# Altium integrated library ON Semi Signal Management Operational Amplifiers.IntLib: 435 symbols (part 11 of 12)
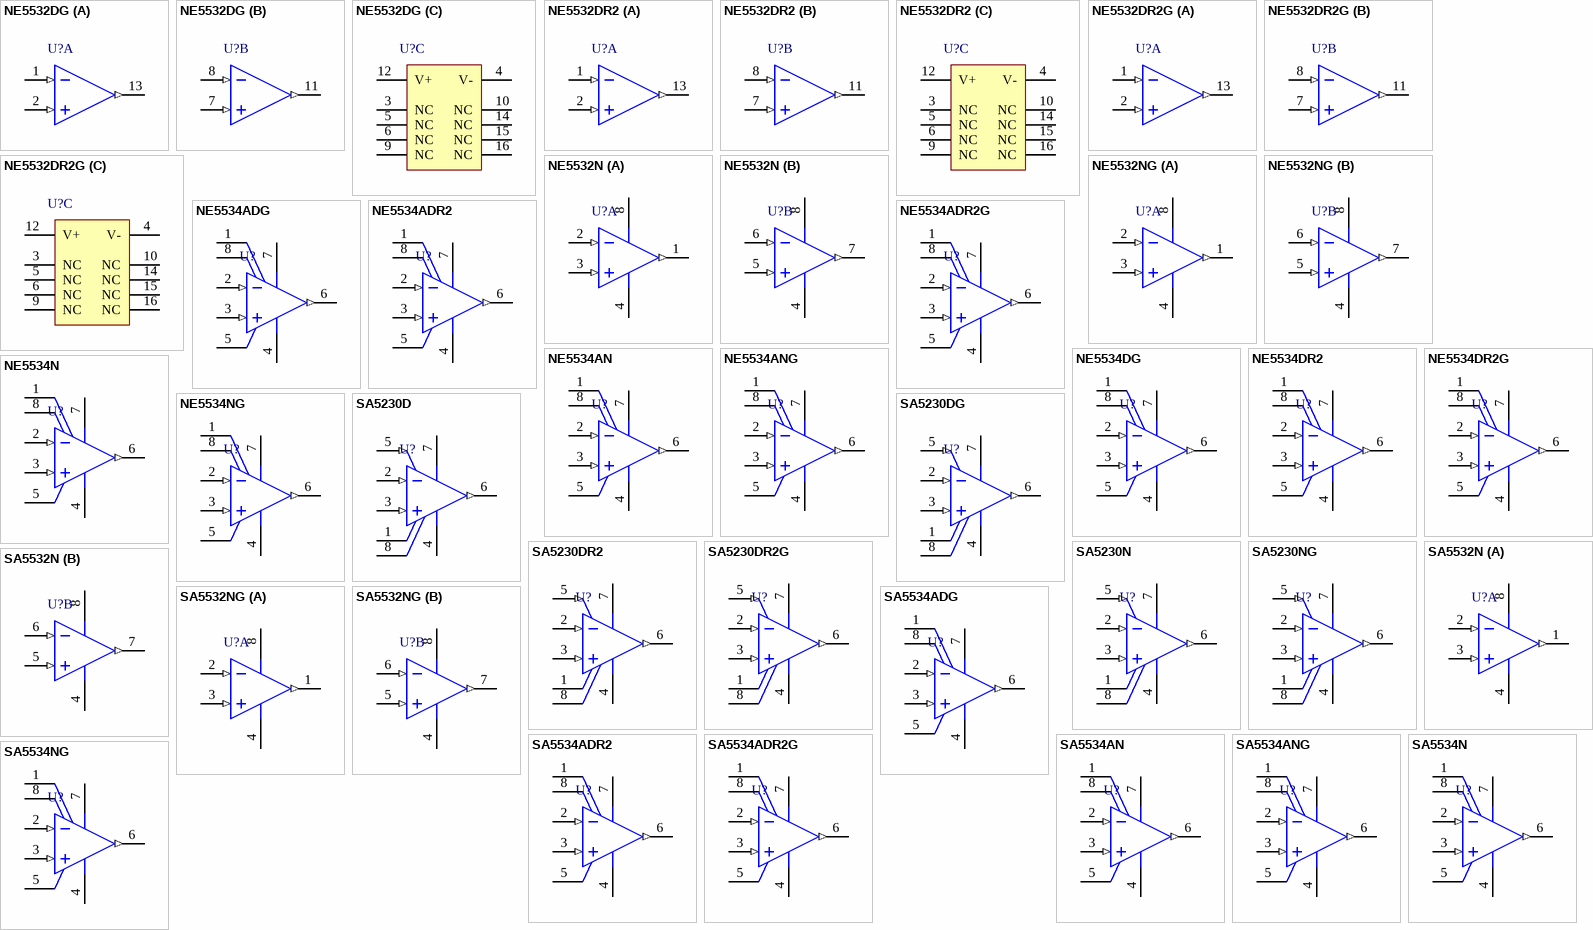
[diagram p35: symbols NE5532DG to SA5534NG]

## SA5230DG
designator U?
Low Voltage Operational Amplifier, 1.8 to 15 V, -40 to 85 degC, 8-Pin SOIC, Pb-Free, Tube; Manufacturer: On Semiconductor; PartNumber: SA5230DG; GBW Typ (MHz): 0.25; VCC Max (V): 15; VCC Min (V): 1.8; DatasheetVersion: Rev. 5; PackageVersion: Rev. AK, 02/2011; PackageReference: SOIC-8-751-07; PackageDescription: 8-Pin Small Outline Integrated Circuit, Body 4.9 x 3.9 mm, Pitch 1.27 mm; Supplier 1: Digi-Key; Supplier Part Number 1: SA5230DG-ND; Supplier 2: Mouser; Supplier Part Number 2: 863-SA5230DG; Packing: Tube; RoHS: TRUE; Mounting Technology: Surface Mount; ComponentLink1Description: Manufacturer URL; ComponentLink1URL: http://www.onsemi.com/; ComponentLink2Description: Datasheet; ComponentLink2URL: http://www.onsemi.cn/pub_link/Collateral/NE5230-D.PDF; ComponentLink3Description: Package Specification; ComponentLink3URL: http://www.onsemi.com/pub_link/Collateral/751-07.PDF
footprint ONSC-SOIC-8-751-07_V (SOIC, 8-Leads, Body 4.9x3.9mm, Pitch 1.27mm)
pins: 1 NC, 2 IN- (in), 3 IN+ (in), 4 VEE (power), 5 BIAS ADJ (in), 6 OUT (out), 7 VCC (power), 8 NC

## SA5230DR2
designator U?
Low Voltage Operational Amplifier, 1.8 to 15 V, -40 to 85 degC, 8-Pin SOIC, Tape and Reel; Manufacturer: On Semiconductor; PartNumber: SA5230DR2; GBW Typ (MHz): 0.25; VCC Max (V): 15; VCC Min (V): 1.8; DatasheetVersion: Rev. 5; PackageVersion: Rev. AK, 02/2011; PackageReference: SOIC-8-751-07; PackageDescription: 8-Pin Small Outline Integrated Circuit, Body 4.9 x 3.9 mm, Pitch 1.27 mm; Supplier 1: Digi-Key; Supplier Part Number 1: SA5230DR2-ND; Packing: Tape and Reel; RoHS: FALSE; Mounting Technology: Surface Mount; ComponentLink1Description: Manufacturer URL; ComponentLink1URL: http://www.onsemi.com/; ComponentLink2Description: Datasheet; ComponentLink2URL: http://www.onsemi.cn/pub_link/Collateral/NE5230-D.PDF; ComponentLink3Description: Package Specification; ComponentLink3URL: http://www.onsemi.com/pub_link/Collateral/751-07.PDF
footprint ONSC-SOIC-8-751-07_V (SOIC, 8-Leads, Body 4.9x3.9mm, Pitch 1.27mm)
pins: 1 NC, 2 IN- (in), 3 IN+ (in), 4 VEE (power), 5 BIAS ADJ (in), 6 OUT (out), 7 VCC (power), 8 NC

## SA5230DR2G
designator U?
Low Voltage Operational Amplifier, 1.8 to 15 V, -40 to 85 degC, 8-Pin SOIC, Pb-Free, Tape and Reel; Manufacturer: On Semiconductor; PartNumber: SA5230DR2G; GBW Typ (MHz): 0.25; VCC Max (V): 15; VCC Min (V): 1.8; DatasheetVersion: Rev. 5; PackageVersion: Rev. AK, 02/2011; PackageReference: SOIC-8-751-07; PackageDescription: 8-Pin Small Outline Integrated Circuit, Body 4.9 x 3.9 mm, Pitch 1.27 mm; Supplier 1: Digi-Key; Supplier Part Number 1: SA5230DR2GOSTR-ND; Supplier 2: Digi-Key; Supplier Part Number 2: SA5230DR2GOSCT-ND; Supplier 3: Newark; Supplier Part Number 3: 42K2593; Supplier 4: Mouser; Supplier Part Number 4: 863-SA5230DR2G; Packing: Tape and Reel; RoHS: TRUE; Mounting Technology: Surface Mount; ComponentLink1Description: Manufacturer URL; ComponentLink1URL: http://www.onsemi.com/; ComponentLink2Description: Datasheet; ComponentLink2URL: http://www.onsemi.cn/pub_link/Collateral/NE5230-D.PDF; ComponentLink3Description: Package Specification; ComponentLink3URL: http://www.onsemi.com/pub_link/Collateral/751-07.PDF
footprint ONSC-SOIC-8-751-07_V (SOIC, 8-Leads, Body 4.9x3.9mm, Pitch 1.27mm)
pins: 1 NC, 2 IN- (in), 3 IN+ (in), 4 VEE (power), 5 BIAS ADJ (in), 6 OUT (out), 7 VCC (power), 8 NC

## SA5230N
designator U?
Low Voltage Operational Amplifier, 1.8 to 15 V, -40 to 85 degC, 8-Pin PDIP, Tube; Manufacturer: On Semiconductor; PartNumber: SA5230N; GBW Typ (MHz): 0.25; VCC Max (V): 15; VCC Min (V): 1.8; DatasheetVersion: Rev. 5; PackageVersion: Rev. M, 04/2010; PackageReference: PDIP-8-626-05; PackageDescription: 8-Pin Plastic Dual-In Line Package, Body 9.52 x 6.605 mm, Pitch 2.54 mm; Supplier 1: Digi-Key; Supplier Part Number 1: SA5230N-ND; Packing: Tube; RoHS: FALSE; Mounting Technology: Through Hole; ComponentLink1Description: Manufacturer URL; ComponentLink1URL: http://www.onsemi.com/; ComponentLink2Description: Datasheet; ComponentLink2URL: http://www.onsemi.cn/pub_link/Collateral/NE5230-D.PDF; ComponentLink3Description: Package Specification; ComponentLink3URL: http://www.onsemi.com/pub_link/Collateral/LM211-D.PDF
footprint ONSC-PDIP-8-626-05_M (DIP, 8-Leads, Body 10x7.1mm, Pitch 2.54mm)
pins: 1 NC, 2 IN- (in), 3 IN+ (in), 4 VEE (power), 5 BIAS ADJ (in), 6 OUT (out), 7 VCC (power), 8 NC

## SA5230NG
designator U?
Low Voltage Operational Amplifier, 1.8 to 15 V, -40 to 85 degC, 8-Pin PDIP, Pb-Free, Tube; Manufacturer: On Semiconductor; PartNumber: SA5230NG; GBW Typ (MHz): 0.25; VCC Max (V): 15; VCC Min (V): 1.8; DatasheetVersion: Rev. 5; PackageVersion: Rev. M, 04/2010; PackageReference: PDIP-8-626-05; PackageDescription: 8-Pin Plastic Dual-In Line Package, Body 9.52 x 6.605 mm, Pitch 2.54 mm; Supplier 1: Digi-Key; Supplier Part Number 1: SA5230NG-ND; Supplier 2: Newark; Supplier Part Number 2: 42K2594; Supplier 3: Mouser; Supplier Part Number 3: 863-SA5230NG; Packing: Tube; RoHS: TRUE; Mounting Technology: Through Hole; ComponentLink1Description: Manufacturer URL; ComponentLink1URL: http://www.onsemi.com/; ComponentLink2Description: Datasheet; ComponentLink2URL: http://www.onsemi.cn/pub_link/Collateral/NE5230-D.PDF; ComponentLink3Description: Package Specification; ComponentLink3URL: http://www.onsemi.com/pub_link/Collateral/LM211-D.PDF
footprint ONSC-PDIP-8-626-05_M (DIP, 8-Leads, Body 10x7.1mm, Pitch 2.54mm)
pins: 1 NC, 2 IN- (in), 3 IN+ (in), 4 VEE (power), 5 BIAS ADJ (in), 6 OUT (out), 7 VCC (power), 8 NC

## SA5532N
designator U?
Internally Compensated Dual Low Noise Operational Amplifier, 6 to 40 V, -40 to 85 degC, 8-Pin PDIP, Tube; Manufacturer: On Semiconductor; PartNumber: SA5532N; GBW Typ (MHz): 10; SR Typ (V/uS): 9; VCC Max (V): 40; VCC Min (V): 6; DatasheetVersion: Rev. 2; PackageVersion: Rev. N, 06/2013; PackageReference: PDIP-8-626-05; PackageDescription: 8-Pin Plastic Dual-In Line Package, Body 9.59 x 6.605 mm, Pitch 2.54 mm; Supplier 1: Digi-Key; Supplier Part Number 1: SA5532N-ND; Packing: Tube; RoHS: FALSE; Mounting Technology: Through Hole; ComponentLink1Description: Manufacturer URL; ComponentLink1URL: http://www.onsemi.com/; ComponentLink2Description: Datasheet; ComponentLink2URL: http://www.onsemi.cn/pub_link/Collateral/NE5532-D.PDF; ComponentLink3Description: Package Specification; ComponentLink3URL: http://www.onsemi.cn/pub_link/Collateral/626-05.PDF
footprint ONSC-PDIP-8-626-05 (DIP, 8-Leads, Body 10.15x7.1mm, Pitch 2.54mm)
pins on every part: 4 V- (power), 8 V+ (power)
part A pins: 1 OUTA (out), 2 INA- (in), 3 INA+ (in)
part B pins: 5 INB+ (in), 6 INB- (in), 7 OUTB (out)

## SA5532NG
designator U?
Internally Compensated Dual Low Noise Operational Amplifier, 6 to 40 V, -40 to 85 degC, 8-Pin PDIP, Pb-Free, Tube; Manufacturer: On Semiconductor; PartNumber: SA5532NG; GBW Typ (MHz): 10; SR Typ (V/uS): 9; VCC Max (V): 40; VCC Min (V): 6; DatasheetVersion: Rev. 2; PackageVersion: Rev. N, 06/2013; PackageReference: PDIP-8-626-05; PackageDescription: 8-Pin Plastic Dual-In Line Package, Body 9.59 x 6.605 mm, Pitch 2.54 mm; Supplier 1: Digi-Key; Supplier Part Number 1: SA5532NG-ND; Supplier 2: Farnell; Supplier Part Number 2: 1426381; Supplier 3: Newark; Supplier Part Number 3: 42K2595; Supplier 4: Mouser; Supplier Part Number 4: 863-SA5532NG; Packing: Tube; RoHS: TRUE; Mounting Technology: Through Hole; ComponentLink1Description: Manufacturer URL; ComponentLink1URL: http://www.onsemi.com/; ComponentLink2Description: Datasheet; ComponentLink2URL: http://www.onsemi.cn/pub_link/Collateral/NE5532-D.PDF; ComponentLink3Description: Package Specification; ComponentLink3URL: http://www.onsemi.cn/pub_link/Collateral/626-05.PDF
footprint ONSC-PDIP-8-626-05 (DIP, 8-Leads, Body 10.15x7.1mm, Pitch 2.54mm)
pins on every part: 4 V- (power), 8 V+ (power)
part A pins: 1 OUTA (out), 2 INA- (in), 3 INA+ (in)
part B pins: 5 INB+ (in), 6 INB- (in), 7 OUTB (out)

## SA5534ADG
designator U?
Single Low Noise Operational Amplifier, 6 to 40 V, -40 to 85 degC, 8-Pin SOIC, Pb-Free, Tube; Manufacturer: On Semiconductor; PartNumber: SA5534ADG; GBW Typ (MHz): 10; VCC Max (V): 40; VCC Min (V): 6; DatasheetVersion: Rev. 3; PackageVersion: Rev. AK, 02/2011; PackageReference: SOIC-8-751-07; PackageDescription: 8-Pin Small Outline Integrated Circuit, Body 4.9 x 3.9 mm, Pitch 1.27 mm; Supplier 1: Digi-Key; Supplier Part Number 1: SA5534ADGOS-ND; Supplier 2: Mouser; Supplier Part Number 2: 863-SA5534ADG; Packing: Tube; RoHS: TRUE; Mounting Technology: Surface Mount; ComponentLink1Description: Manufacturer URL; ComponentLink1URL: http://www.onsemi.com/; ComponentLink2Description: Datasheet; ComponentLink2URL: http://www.onsemi.cn/pub_link/Collateral/NE5534-D.PDF; ComponentLink3Description: Package Specification; ComponentLink3URL: http://www.onsemi.com/pub_link/Collateral/751-07.PDF
footprint ONSC-SOIC-8-751-07_V (SOIC, 8-Leads, Body 4.9x3.9mm, Pitch 1.27mm)
pins: 1 BALANCE, 2 IN- (in), 3 IN+ (in), 4 V- (power), 5 COMPENSATION, 6 OUT (out), 7 V+ (power), 8 BALANCE/COMPENSATION

## SA5534ADR2
designator U?
Single Low Noise Operational Amplifier, 6 to 40 V, -40 to 85 degC, 8-Pin SOIC, Tape and Reel; Manufacturer: On Semiconductor; PartNumber: SA5534ADR2; GBW Typ (MHz): 10; VCC Max (V): 40; VCC Min (V): 6; DatasheetVersion: Rev. 3; PackageVersion: Rev. AK, 02/2011; PackageReference: SOIC-8-751-07; PackageDescription: 8-Pin Small Outline Integrated Circuit, Body 4.9 x 3.9 mm, Pitch 1.27 mm; Packing: Tape and Reel; RoHS: FALSE; Mounting Technology: Surface Mount; ComponentLink1Description: Manufacturer URL; ComponentLink1URL: http://www.onsemi.com/; ComponentLink2Description: Datasheet; ComponentLink2URL: http://www.onsemi.cn/pub_link/Collateral/NE5534-D.PDF; ComponentLink3Description: Package Specification; ComponentLink3URL: http://www.onsemi.com/pub_link/Collateral/751-07.PDF
footprint ONSC-SOIC-8-751-07_V (SOIC, 8-Leads, Body 4.9x3.9mm, Pitch 1.27mm)
pins: 1 BALANCE, 2 IN- (in), 3 IN+ (in), 4 V- (power), 5 COMPENSATION, 6 OUT (out), 7 V+ (power), 8 BALANCE/COMPENSATION

## SA5534ADR2G
designator U?
Single Low Noise Operational Amplifier, 6 to 40 V, -40 to 85 degC, 8-Pin SOIC, Pb-Free, Tape and Reel; Manufacturer: On Semiconductor; PartNumber: SA5534ADR2G; GBW Typ (MHz): 10; VCC Max (V): 40; VCC Min (V): 6; DatasheetVersion: Rev. 3; PackageVersion: Rev. AK, 02/2011; PackageReference: SOIC-8-751-07; PackageDescription: 8-Pin Small Outline Integrated Circuit, Body 4.9 x 3.9 mm, Pitch 1.27 mm; Supplier 1: Digi-Key; Supplier Part Number 1: SA5534ADR2GOSTR-ND; Supplier 2: Digi-Key; Supplier Part Number 2: SA5534ADR2GOSCT-ND; Supplier 3: Mouser; Supplier Part Number 3: 863-SA5534ADR2G; Packing: Tape and Reel; RoHS: TRUE; Mounting Technology: Surface Mount; ComponentLink1Description: Manufacturer URL; ComponentLink1URL: http://www.onsemi.com/; ComponentLink2Description: Datasheet; ComponentLink2URL: http://www.onsemi.cn/pub_link/Collateral/NE5534-D.PDF; ComponentLink3Description: Package Specification; ComponentLink3URL: http://www.onsemi.com/pub_link/Collateral/751-07.PDF
footprint ONSC-SOIC-8-751-07_V (SOIC, 8-Leads, Body 4.9x3.9mm, Pitch 1.27mm)
pins: 1 BALANCE, 2 IN- (in), 3 IN+ (in), 4 V- (power), 5 COMPENSATION, 6 OUT (out), 7 V+ (power), 8 BALANCE/COMPENSATION

## SA5534AN
designator U?
Single Low Noise Operational Amplifier, 6 to 40 V, -40 to 85 degC, 8-Pin PDIP, Tube; Manufacturer: On Semiconductor; PartNumber: SA5534AN; GBW Typ (MHz): 10; VCC Max (V): 40; VCC Min (V): 6; DatasheetVersion: Rev. 3; PackageVersion: Rev. M, 04/2010; PackageReference: PDIP-8-626-05; PackageDescription: 8-Pin Plastic Dual-In Line Package, Body 9.52 x 6.605 mm, Pitch 2.54 mm; Supplier 1: Digi-Key; Supplier Part Number 1: SA5534AN-ND; Packing: Tube; RoHS: FALSE; Mounting Technology: Through Hole; ComponentLink1Description: Manufacturer URL; ComponentLink1URL: http://www.onsemi.com/; ComponentLink2Description: Datasheet; ComponentLink2URL: http://www.onsemi.cn/pub_link/Collateral/NE5534-D.PDF; ComponentLink3Description: Package Specification; ComponentLink3URL: http://www.onsemi.com/pub_link/Collateral/LM211-D.PDF
footprint ONSC-PDIP-8-626-05_M (DIP, 8-Leads, Body 10x7.1mm, Pitch 2.54mm)
pins: 1 BALANCE, 2 IN- (in), 3 IN+ (in), 4 V- (power), 5 COMPENSATION, 6 OUT (out), 7 V+ (power), 8 BALANCE/COMPENSATION

## SA5534ANG
designator U?
Single Low Noise Operational Amplifier, 6 to 40 V, -40 to 85 degC, 8-Pin PDIP, Pb-Free, Tube; Manufacturer: On Semiconductor; PartNumber: SA5534ANG; GBW Typ (MHz): 10; VCC Max (V): 40; VCC Min (V): 6; DatasheetVersion: Rev. 3; PackageVersion: Rev. M, 04/2010; PackageReference: PDIP-8-626-05; PackageDescription: 8-Pin Plastic Dual-In Line Package, Body 9.52 x 6.605 mm, Pitch 2.54 mm; Supplier 1: Digi-Key; Supplier Part Number 1: SA5534ANG-ND; Supplier 2: Mouser; Supplier Part Number 2: 863-SA5534ANG; Packing: Tube; RoHS: TRUE; Mounting Technology: Through Hole; ComponentLink1Description: Manufacturer URL; ComponentLink1URL: http://www.onsemi.com/; ComponentLink2Description: Datasheet; ComponentLink2URL: http://www.onsemi.cn/pub_link/Collateral/NE5534-D.PDF; ComponentLink3Description: Package Specification; ComponentLink3URL: http://www.onsemi.com/pub_link/Collateral/LM211-D.PDF
footprint ONSC-PDIP-8-626-05_M (DIP, 8-Leads, Body 10x7.1mm, Pitch 2.54mm)
pins: 1 BALANCE, 2 IN- (in), 3 IN+ (in), 4 V- (power), 5 COMPENSATION, 6 OUT (out), 7 V+ (power), 8 BALANCE/COMPENSATION

## SA5534N
designator U?
Single Low Noise Operational Amplifier, 6 to 40 V, -40 to 85 degC, 8-Pin PDIP, Tube; Manufacturer: On Semiconductor; PartNumber: SA5534N; GBW Typ (MHz): 10; VCC Max (V): 40; VCC Min (V): 6; DatasheetVersion: Rev. 3; PackageVersion: Rev. M, 04/2010; PackageReference: PDIP-8-626-05; PackageDescription: 8-Pin Plastic Dual-In Line Package, Body 9.52 x 6.605 mm, Pitch 2.54 mm; Supplier 1: Digi-Key; Supplier Part Number 1: SA5534N-ND; Packing: Tube; RoHS: FALSE; Mounting Technology: Through Hole; ComponentLink1Description: Manufacturer URL; ComponentLink1URL: http://www.onsemi.com/; ComponentLink2Description: Datasheet; ComponentLink2URL: http://www.onsemi.cn/pub_link/Collateral/NE5534-D.PDF; ComponentLink3Description: Package Specification; ComponentLink3URL: http://www.onsemi.com/pub_link/Collateral/LM211-D.PDF
footprint ONSC-PDIP-8-626-05_M (DIP, 8-Leads, Body 10x7.1mm, Pitch 2.54mm)
pins: 1 BALANCE, 2 IN- (in), 3 IN+ (in), 4 V- (power), 5 COMPENSATION, 6 OUT (out), 7 V+ (power), 8 BALANCE/COMPENSATION

## SA5534NG
designator U?
Single Low Noise Operational Amplifier, 6 to 40 V, -40 to 85 degC, 8-Pin PDIP, Pb-Free, Tube; Manufacturer: On Semiconductor; PartNumber: SA5534NG; GBW Typ (MHz): 10; VCC Max (V): 40; VCC Min (V): 6; DatasheetVersion: Rev. 3; PackageVersion: Rev. M, 04/2010; PackageReference: PDIP-8-626-05; PackageDescription: 8-Pin Plastic Dual-In Line Package, Body 9.52 x 6.605 mm, Pitch 2.54 mm; Supplier 1: Digi-Key; Supplier Part Number 1: SA5534NG-ND; Supplier 2: Mouser; Supplier Part Number 2: 863-SA5534NG; Packing: Tube; RoHS: TRUE; Mounting Technology: Through Hole; ComponentLink1Description: Manufacturer URL; ComponentLink1URL: http://www.onsemi.com/; ComponentLink2Description: Datasheet; ComponentLink2URL: http://www.onsemi.cn/pub_link/Collateral/NE5534-D.PDF; ComponentLink3Description: Package Specification; ComponentLink3URL: http://www.onsemi.com/pub_link/Collateral/LM211-D.PDF
footprint ONSC-PDIP-8-626-05_M (DIP, 8-Leads, Body 10x7.1mm, Pitch 2.54mm)
pins: 1 BALANCE, 2 IN- (in), 3 IN+ (in), 4 V- (power), 5 COMPENSATION, 6 OUT (out), 7 V+ (power), 8 BALANCE/COMPENSATION

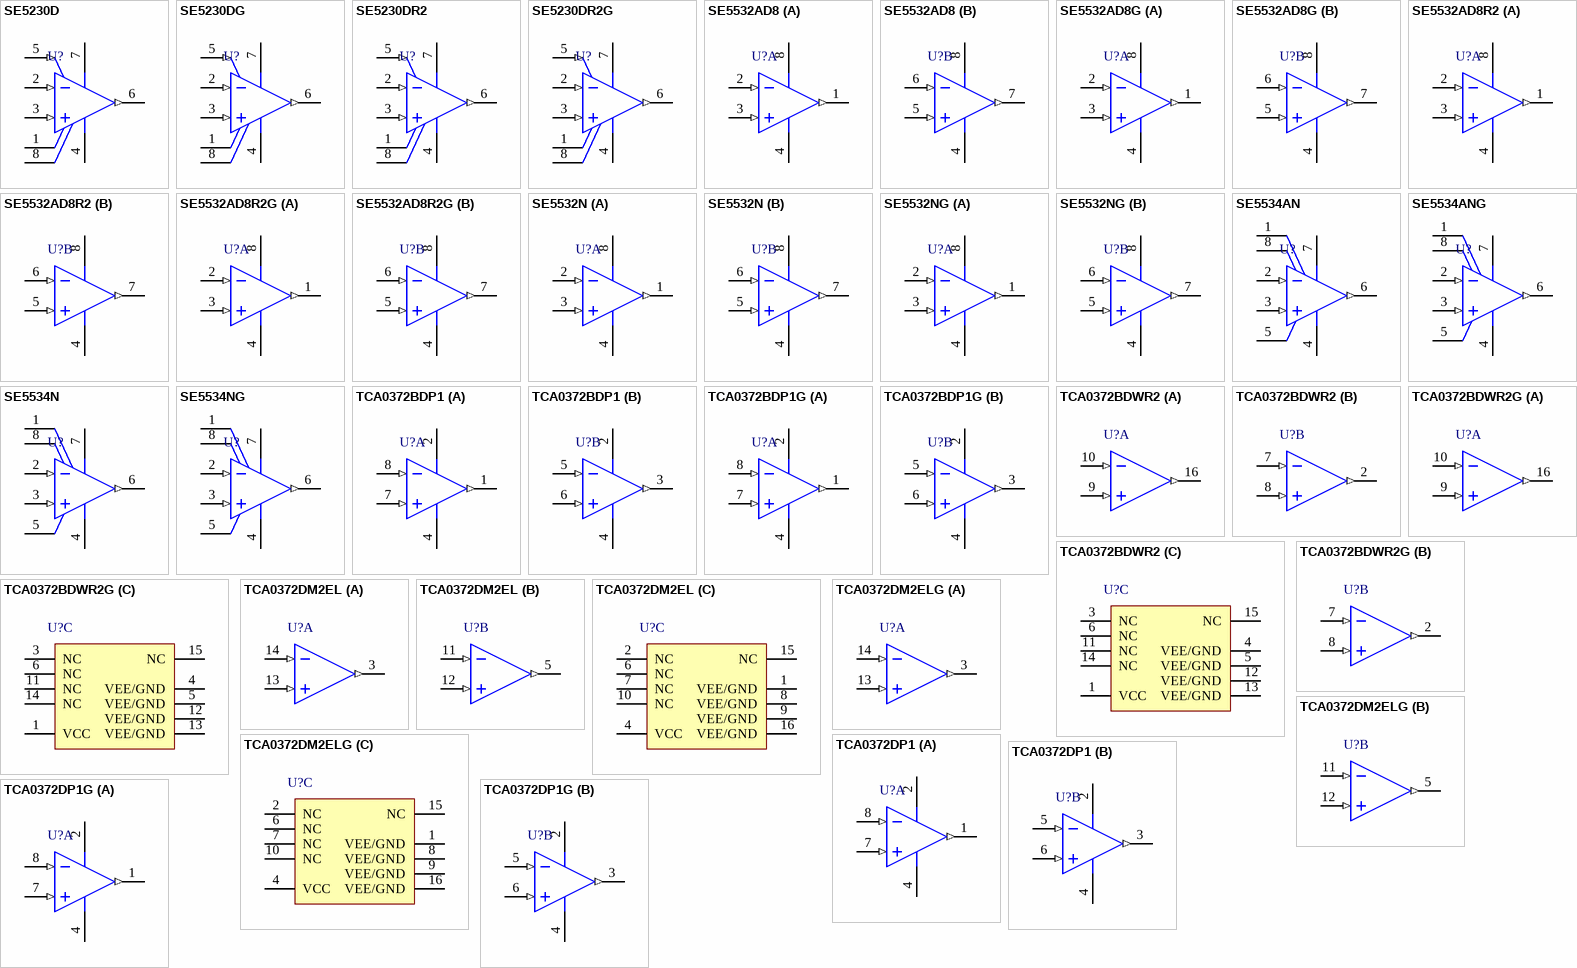
[diagram p24: symbols SE5230D to TCA0372DP1G]

## SE5230D
designator U?
Low Voltage Operational Amplifier, 1.8 to 15 V, -40 to 125 degC, 8-Pin SOIC, Tube; Manufacturer: On Semiconductor; PartNumber: SE5230D; GBW Typ (MHz): 0.25; VCC Max (V): 15; VCC Min (V): 1.8; DatasheetVersion: Rev. 5; PackageVersion: Rev. AK, 02/2011; PackageReference: SOIC-8-751-07; PackageDescription: 8-Pin Small Outline Integrated Circuit, Body 4.9 x 3.9 mm, Pitch 1.27 mm; Supplier 1: Digi-Key; Supplier Part Number 1: SE5230D-ND; Packing: Tube; RoHS: FALSE; Mounting Technology: Surface Mount; ComponentLink1Description: Manufacturer URL; ComponentLink1URL: http://www.onsemi.com/; ComponentLink2Description: Datasheet; ComponentLink2URL: http://www.onsemi.cn/pub_link/Collateral/NE5230-D.PDF; ComponentLink3Description: Package Specification; ComponentLink3URL: http://www.onsemi.com/pub_link/Collateral/751-07.PDF
footprint ONSC-SOIC-8-751-07_V (SOIC, 8-Leads, Body 4.9x3.9mm, Pitch 1.27mm)
pins: 1 NC, 2 IN- (in), 3 IN+ (in), 4 VEE (power), 5 BIAS ADJ (in), 6 OUT (out), 7 VCC (power), 8 NC

## SE5230DG
designator U?
Low Voltage Operational Amplifier, 1.8 to 15 V, -40 to 125 degC, 8-Pin SOIC, Pb-Free, Tube; Manufacturer: On Semiconductor; PartNumber: SE5230DG; GBW Typ (MHz): 0.25; VCC Max (V): 15; VCC Min (V): 1.8; DatasheetVersion: Rev. 5; PackageVersion: Rev. AK, 02/2011; PackageReference: SOIC-8-751-07; PackageDescription: 8-Pin Small Outline Integrated Circuit, Body 4.9 x 3.9 mm, Pitch 1.27 mm; Supplier 1: Digi-Key; Supplier Part Number 1: SE5230DG-ND; Supplier 2: Mouser; Supplier Part Number 2: 863-SE5230DG; Packing: Tube; RoHS: TRUE; Mounting Technology: Surface Mount; ComponentLink1Description: Manufacturer URL; ComponentLink1URL: http://www.onsemi.com/; ComponentLink2Description: Datasheet; ComponentLink2URL: http://www.onsemi.cn/pub_link/Collateral/NE5230-D.PDF; ComponentLink3Description: Package Specification; ComponentLink3URL: http://www.onsemi.com/pub_link/Collateral/751-07.PDF
footprint ONSC-SOIC-8-751-07_V (SOIC, 8-Leads, Body 4.9x3.9mm, Pitch 1.27mm)
pins: 1 NC, 2 IN- (in), 3 IN+ (in), 4 VEE (power), 5 BIAS ADJ (in), 6 OUT (out), 7 VCC (power), 8 NC

## SE5230DR2
designator U?
Low Voltage Operational Amplifier, 1.8 to 15 V, -40 to 125 degC, 8-Pin SOIC, Tape and Reel; Manufacturer: On Semiconductor; PartNumber: SE5230DR2; GBW Typ (MHz): 0.25; VCC Max (V): 15; VCC Min (V): 1.8; DatasheetVersion: Rev. 5; PackageVersion: Rev. AK, 02/2011; PackageReference: SOIC-8-751-07; PackageDescription: 8-Pin Small Outline Integrated Circuit, Body 4.9 x 3.9 mm, Pitch 1.27 mm; Supplier 1: Digi-Key; Supplier Part Number 1: SE5230DR2-ND; Packing: Tape and Reel; RoHS: FALSE; Mounting Technology: Surface Mount; ComponentLink1Description: Manufacturer URL; ComponentLink1URL: http://www.onsemi.com/; ComponentLink2Description: Datasheet; ComponentLink2URL: http://www.onsemi.cn/pub_link/Collateral/NE5230-D.PDF; ComponentLink3Description: Package Specification; ComponentLink3URL: http://www.onsemi.com/pub_link/Collateral/751-07.PDF
footprint ONSC-SOIC-8-751-07_V (SOIC, 8-Leads, Body 4.9x3.9mm, Pitch 1.27mm)
pins: 1 NC, 2 IN- (in), 3 IN+ (in), 4 VEE (power), 5 BIAS ADJ (in), 6 OUT (out), 7 VCC (power), 8 NC

## SE5230DR2G
designator U?
Low Voltage Operational Amplifier, 1.8 to 15 V, -40 to 125 degC, 8-Pin SOIC, Pb-Free, Tape and Reel; Manufacturer: On Semiconductor; PartNumber: SE5230DR2G; GBW Typ (MHz): 0.25; VCC Max (V): 15; VCC Min (V): 1.8; DatasheetVersion: Rev. 5; PackageVersion: Rev. AK, 02/2011; PackageReference: SOIC-8-751-07; PackageDescription: 8-Pin Small Outline Integrated Circuit, Body 4.9 x 3.9 mm, Pitch 1.27 mm; Supplier 1: Digi-Key; Supplier Part Number 1: SE5230DR2G-ND; Supplier 2: Mouser; Supplier Part Number 2: 863-SE5230DR2G; Packing: Tape and Reel; RoHS: TRUE; Mounting Technology: Surface Mount; ComponentLink1Description: Manufacturer URL; ComponentLink1URL: http://www.onsemi.com/; ComponentLink2Description: Datasheet; ComponentLink2URL: http://www.onsemi.cn/pub_link/Collateral/NE5230-D.PDF; ComponentLink3Description: Package Specification; ComponentLink3URL: http://www.onsemi.com/pub_link/Collateral/751-07.PDF
footprint ONSC-SOIC-8-751-07_V (SOIC, 8-Leads, Body 4.9x3.9mm, Pitch 1.27mm)
pins: 1 NC, 2 IN- (in), 3 IN+ (in), 4 VEE (power), 5 BIAS ADJ (in), 6 OUT (out), 7 VCC (power), 8 NC

## SE5532AD8
designator U?
Internally Compensated Dual Low Noise Operational Amplifier, 6 to 40 V, -55 to 125 degC, 8-Pin SOIC, Tube; Manufacturer: On Semiconductor; PartNumber: SE5532AD8; GBW Typ (MHz): 10; SR Typ (V/uS): 9; VCC Max (V): 40; VCC Min (V): 6; DatasheetVersion: Rev. 2; PackageVersion: Rev. AK, 02/2011; PackageReference: SOIC-8-751-07; PackageDescription: 8-Pin Small Outline Integrated Circuit, Body 4.9 x 3.9 mm, Pitch 1.27 mm; Supplier 1: Digi-Key; Supplier Part Number 1: SE5532AD8-ND; Packing: Tube; RoHS: FALSE; Mounting Technology: Surface Mount; ComponentLink1Description: Manufacturer URL; ComponentLink1URL: http://www.onsemi.com/; ComponentLink2Description: Datasheet; ComponentLink2URL: http://www.onsemi.cn/pub_link/Collateral/NE5532-D.PDF; ComponentLink3Description: Package Specification; ComponentLink3URL: http://www.onsemi.com/pub_link/Collateral/751-07.PDF
footprint ONSC-SOIC-8-751-07_V (SOIC, 8-Leads, Body 4.9x3.9mm, Pitch 1.27mm)
pins on every part: 4 V- (power), 8 V+ (power)
part A pins: 1 OUTA (out), 2 INA- (in), 3 INA+ (in)
part B pins: 5 INB+ (in), 6 INB- (in), 7 OUTB (out)

## SE5532AD8G
designator U?
Internally Compensated Dual Low Noise Operational Amplifier, 6 to 40 V, -55 to 125 degC, 8-Pin SOIC, Pb-Free, Tube; Manufacturer: On Semiconductor; PartNumber: SE5532AD8G; GBW Typ (MHz): 10; SR Typ (V/uS): 9; VCC Max (V): 40; VCC Min (V): 6; DatasheetVersion: Rev. 2; PackageVersion: Rev. AK, 02/2011; PackageReference: SOIC-8-751-07; PackageDescription: 8-Pin Small Outline Integrated Circuit, Body 4.9 x 3.9 mm, Pitch 1.27 mm; Supplier 1: Digi-Key; Supplier Part Number 1: SE5532AD8GOS-ND; Supplier 2: Farnell; Supplier Part Number 2: 1426383; Supplier 3: Newark; Supplier Part Number 3: 59M1926; Supplier 4: Newark; Supplier Part Number 4: 42K2613; Supplier 5: Mouser; Supplier Part Number 5: 863-SE5532AD8G; Packing: Tube; RoHS: TRUE; Mounting Technology: Surface Mount; ComponentLink1Description: Manufacturer URL; ComponentLink1URL: http://www.onsemi.com/; ComponentLink2Description: Datasheet; ComponentLink2URL: http://www.onsemi.cn/pub_link/Collateral/NE5532-D.PDF; ComponentLink3Description: Package Specification; ComponentLink3URL: http://www.onsemi.com/pub_link/Collateral/751-07.PDF
footprint ONSC-SOIC-8-751-07_V (SOIC, 8-Leads, Body 4.9x3.9mm, Pitch 1.27mm)
pins on every part: 4 V- (power), 8 V+ (power)
part A pins: 1 OUTA (out), 2 INA- (in), 3 INA+ (in)
part B pins: 5 INB+ (in), 6 INB- (in), 7 OUTB (out)

## SE5532AD8R2
designator U?
Internally Compensated Dual Low Noise Operational Amplifier, 6 to 40 V, -55 to 125 degC, 8-Pin SOIC, Tape and Reel; Manufacturer: On Semiconductor; PartNumber: SE5532AD8R2; GBW Typ (MHz): 10; SR Typ (V/uS): 9; VCC Max (V): 40; VCC Min (V): 6; DatasheetVersion: Rev. 2; PackageVersion: Rev. AK, 02/2011; PackageReference: SOIC-8-751-07; PackageDescription: 8-Pin Small Outline Integrated Circuit, Body 4.9 x 3.9 mm, Pitch 1.27 mm; Supplier 1: Digi-Key; Supplier Part Number 1: SE5532AD8R2-ND; Packing: Tape and Reel; RoHS: FALSE; Mounting Technology: Surface Mount; ComponentLink1Description: Manufacturer URL; ComponentLink1URL: http://www.onsemi.com/; ComponentLink2Description: Datasheet; ComponentLink2URL: http://www.onsemi.cn/pub_link/Collateral/NE5532-D.PDF; ComponentLink3Description: Package Specification; ComponentLink3URL: http://www.onsemi.com/pub_link/Collateral/751-07.PDF
footprint ONSC-SOIC-8-751-07_V (SOIC, 8-Leads, Body 4.9x3.9mm, Pitch 1.27mm)
pins on every part: 4 V- (power), 8 V+ (power)
part A pins: 1 OUTA (out), 2 INA- (in), 3 INA+ (in)
part B pins: 5 INB+ (in), 6 INB- (in), 7 OUTB (out)

## SE5532AD8R2G
designator U?
Internally Compensated Dual Low Noise Operational Amplifier, 6 to 40 V, -55 to 125 degC, 8-Pin SOIC, Pb-Free, Tape and Reel; Manufacturer: On Semiconductor; PartNumber: SE5532AD8R2G; GBW Typ (MHz): 10; SR Typ (V/uS): 9; VCC Max (V): 40; VCC Min (V): 6; DatasheetVersion: Rev. 2; PackageVersion: Rev. AK, 02/2011; PackageReference: SOIC-8-751-07; PackageDescription: 8-Pin Small Outline Integrated Circuit, Body 4.9 x 3.9 mm, Pitch 1.27 mm; Supplier 1: Digi-Key; Supplier Part Number 1: SE5532AD8R2GOSTR-ND; Supplier 2: Digi-Key; Supplier Part Number 2: SE5532AD8R2GOSCT-ND; Supplier 3: Newark; Supplier Part Number 3: 26K5180; Supplier 4: Mouser; Supplier Part Number 4: 863-SE5532AD8R2G; Packing: Tape and Reel; RoHS: TRUE; Mounting Technology: Surface Mount; ComponentLink1Description: Manufacturer URL; ComponentLink1URL: http://www.onsemi.com/; ComponentLink2Description: Datasheet; ComponentLink2URL: http://www.onsemi.cn/pub_link/Collateral/NE5532-D.PDF; ComponentLink3Description: Package Specification; ComponentLink3URL: http://www.onsemi.com/pub_link/Collateral/751-07.PDF
footprint ONSC-SOIC-8-751-07_V (SOIC, 8-Leads, Body 4.9x3.9mm, Pitch 1.27mm)
pins on every part: 4 V- (power), 8 V+ (power)
part A pins: 1 OUTA (out), 2 INA- (in), 3 INA+ (in)
part B pins: 5 INB+ (in), 6 INB- (in), 7 OUTB (out)

## SE5532N
designator U?
Internally Compensated Dual Low Noise Operational Amplifier, 6 to 40 V, -55 to 125 degC, 8-Pin PDIP, Tube; Manufacturer: On Semiconductor; PartNumber: SE5532N; GBW Typ (MHz): 10; SR Typ (V/uS): 9; VCC Max (V): 40; VCC Min (V): 6; DatasheetVersion: Rev. 2; PackageVersion: Rev. N, 06/2013; PackageReference: PDIP-8-626-05; PackageDescription: 8-Pin Plastic Dual-In Line Package, Body 9.59 x 6.605 mm, Pitch 2.54 mm; Supplier 1: Digi-Key; Supplier Part Number 1: SE5532N-ND; Supplier 2: Mouser; Supplier Part Number 2: 863-SE5532N; Packing: Tube; RoHS: FALSE; Mounting Technology: Through Hole; ComponentLink1Description: Manufacturer URL; ComponentLink1URL: http://www.onsemi.com/; ComponentLink2Description: Datasheet; ComponentLink2URL: http://www.onsemi.cn/pub_link/Collateral/NE5532-D.PDF; ComponentLink3Description: Package Specification; ComponentLink3URL: http://www.onsemi.cn/pub_link/Collateral/626-05.PDF
footprint ONSC-PDIP-8-626-05 (DIP, 8-Leads, Body 10.15x7.1mm, Pitch 2.54mm)
pins on every part: 4 V- (power), 8 V+ (power)
part A pins: 1 OUTA (out), 2 INA- (in), 3 INA+ (in)
part B pins: 5 INB+ (in), 6 INB- (in), 7 OUTB (out)

## SE5532NG
designator U?
Internally Compensated Dual Low Noise Operational Amplifier, 6 to 40 V, -55 to 125 degC, 8-Pin PDIP, Pb-Free, Tube; Manufacturer: On Semiconductor; PartNumber: SE5532NG; GBW Typ (MHz): 10; SR Typ (V/uS): 9; VCC Max (V): 40; VCC Min (V): 6; DatasheetVersion: Rev. 2; PackageVersion: Rev. N, 06/2013; PackageReference: PDIP-8-626-05; PackageDescription: 8-Pin Plastic Dual-In Line Package, Body 9.59 x 6.605 mm, Pitch 2.54 mm; Supplier 1: Digi-Key; Supplier Part Number 1: SE5532NG-ND; Supplier 2: Newark; Supplier Part Number 2: 26K5181; Supplier 3: Mouser; Supplier Part Number 3: 863-SE5532NG; Packing: Tube; RoHS: TRUE; Mounting Technology: Through Hole; ComponentLink1Description: Manufacturer URL; ComponentLink1URL: http://www.onsemi.com/; ComponentLink2Description: Datasheet; ComponentLink2URL: http://www.onsemi.cn/pub_link/Collateral/NE5532-D.PDF; ComponentLink3Description: Package Specification; ComponentLink3URL: http://www.onsemi.cn/pub_link/Collateral/626-05.PDF
footprint ONSC-PDIP-8-626-05 (DIP, 8-Leads, Body 10.15x7.1mm, Pitch 2.54mm)
pins on every part: 4 V- (power), 8 V+ (power)
part A pins: 1 OUTA (out), 2 INA- (in), 3 INA+ (in)
part B pins: 5 INB+ (in), 6 INB- (in), 7 OUTB (out)

## SE5534AN
designator U?
Single Low Noise Operational Amplifier, 6 to 40 V, -55 to 125 degC, 8-Pin PDIP, Tube; Manufacturer: On Semiconductor; PartNumber: SE5534AN; GBW Typ (MHz): 10; VCC Max (V): 40; VCC Min (V): 6; DatasheetVersion: Rev. 3; PackageVersion: Rev. M, 04/2010; PackageReference: PDIP-8-626-05; PackageDescription: 8-Pin Plastic Dual-In Line Package, Body 9.52 x 6.605 mm, Pitch 2.54 mm; Supplier 1: Digi-Key; Supplier Part Number 1: SE5534AN-ND; Supplier 2: Mouser; Supplier Part Number 2: 863-SE5534AN; Packing: Tube; RoHS: FALSE; Mounting Technology: Through Hole; ComponentLink1Description: Manufacturer URL; ComponentLink1URL: http://www.onsemi.com/; ComponentLink2Description: Datasheet; ComponentLink2URL: http://www.onsemi.cn/pub_link/Collateral/NE5534-D.PDF; ComponentLink3Description: Package Specification; ComponentLink3URL: http://www.onsemi.com/pub_link/Collateral/LM211-D.PDF
footprint ONSC-PDIP-8-626-05_M (DIP, 8-Leads, Body 10x7.1mm, Pitch 2.54mm)
pins: 1 BALANCE, 2 IN- (in), 3 IN+ (in), 4 V- (power), 5 COMPENSATION, 6 OUT (out), 7 V+ (power), 8 BALANCE/COMPENSATION

## SE5534ANG
designator U?
Single Low Noise Operational Amplifier, 6 to 40 V, -55 to 125 degC, 8-Pin PDIP, Pb-Free, Tube; Manufacturer: On Semiconductor; PartNumber: SE5534ANG; GBW Typ (MHz): 10; VCC Max (V): 40; VCC Min (V): 6; DatasheetVersion: Rev. 3; PackageVersion: Rev. M, 04/2010; PackageReference: PDIP-8-626-05; PackageDescription: 8-Pin Plastic Dual-In Line Package, Body 9.52 x 6.605 mm, Pitch 2.54 mm; Supplier 1: Digi-Key; Supplier Part Number 1: SE5534ANGOS-ND; Supplier 2: Farnell; Supplier Part Number 2: 1426391; Supplier 3: Mouser; Supplier Part Number 3: 863-SE5534ANG; Packing: Tube; RoHS: TRUE; Mounting Technology: Through Hole; ComponentLink1Description: Manufacturer URL; ComponentLink1URL: http://www.onsemi.com/; ComponentLink2Description: Datasheet; ComponentLink2URL: http://www.onsemi.cn/pub_link/Collateral/NE5534-D.PDF; ComponentLink3Description: Package Specification; ComponentLink3URL: http://www.onsemi.com/pub_link/Collateral/LM211-D.PDF
footprint ONSC-PDIP-8-626-05_M (DIP, 8-Leads, Body 10x7.1mm, Pitch 2.54mm)
pins: 1 BALANCE, 2 IN- (in), 3 IN+ (in), 4 V- (power), 5 COMPENSATION, 6 OUT (out), 7 V+ (power), 8 BALANCE/COMPENSATION

## SE5534N
designator U?
Single Low Noise Operational Amplifier, 6 to 40 V, -55 to 125 degC, 8-Pin PDIP, Tube; Manufacturer: On Semiconductor; PartNumber: SE5534N; GBW Typ (MHz): 10; VCC Max (V): 40; VCC Min (V): 6; DatasheetVersion: Rev. 3; PackageVersion: Rev. M, 04/2010; PackageReference: PDIP-8-626-05; PackageDescription: 8-Pin Plastic Dual-In Line Package, Body 9.52 x 6.605 mm, Pitch 2.54 mm; Supplier 1: Digi-Key; Supplier Part Number 1: SE5534N-ND; Packing: Tube; RoHS: FALSE; Mounting Technology: Through Hole; ComponentLink1Description: Manufacturer URL; ComponentLink1URL: http://www.onsemi.com/; ComponentLink2Description: Datasheet; ComponentLink2URL: http://www.onsemi.cn/pub_link/Collateral/NE5534-D.PDF; ComponentLink3Description: Package Specification; ComponentLink3URL: http://www.onsemi.com/pub_link/Collateral/LM211-D.PDF
footprint ONSC-PDIP-8-626-05_M (DIP, 8-Leads, Body 10x7.1mm, Pitch 2.54mm)
pins: 1 BALANCE, 2 IN- (in), 3 IN+ (in), 4 V- (power), 5 COMPENSATION, 6 OUT (out), 7 V+ (power), 8 BALANCE/COMPENSATION

## SE5534NG
designator U?
Single Low Noise Operational Amplifier, 6 to 40 V, -55 to 125 degC, 8-Pin PDIP, Pb-Free, Tube; Manufacturer: On Semiconductor; PartNumber: SE5534NG; GBW Typ (MHz): 10; VCC Max (V): 40; VCC Min (V): 6; DatasheetVersion: Rev. 3; PackageVersion: Rev. M, 04/2010; PackageReference: PDIP-8-626-05; PackageDescription: 8-Pin Plastic Dual-In Line Package, Body 9.52 x 6.605 mm, Pitch 2.54 mm; Supplier 1: Digi-Key; Supplier Part Number 1: SE5534NG-ND; Supplier 2: Mouser; Supplier Part Number 2: 863-SE5534NG; Packing: Tube; RoHS: TRUE; Mounting Technology: Through Hole; ComponentLink1Description: Manufacturer URL; ComponentLink1URL: http://www.onsemi.com/; ComponentLink2Description: Datasheet; ComponentLink2URL: http://www.onsemi.cn/pub_link/Collateral/NE5534-D.PDF; ComponentLink3Description: Package Specification; ComponentLink3URL: http://www.onsemi.com/pub_link/Collateral/LM211-D.PDF
footprint ONSC-PDIP-8-626-05_M (DIP, 8-Leads, Body 10x7.1mm, Pitch 2.54mm)
pins: 1 BALANCE, 2 IN- (in), 3 IN+ (in), 4 V- (power), 5 COMPENSATION, 6 OUT (out), 7 V+ (power), 8 BALANCE/COMPENSATION

## TCA0372BDP1
designator U?
1.0 A Output Current, Dual Power Operational Amplifier, -40 to 125 degC, 8-Pin PDIP, Tube; Manufacturer: On Semiconductor; PartNumber: TCA0372BDP1; GBW Typ (MHz): 1.4; DatasheetVersion: Rev. 11; PackageVersion: Rev. M, 04/2010; PackageReference: PDIP-8-626-05; PackageDescription: 8-Pin Plastic Dual-In Line Package, Body 9.52 x 6.605 mm, Pitch 2.54 mm; Supplier 1: Digi-Key; Supplier Part Number 1: TCA0372BDP1OS-ND; Packing: Tube; RoHS: FALSE; SR Typ (V/uS): 1.4; Mounting Technology: Through Hole; ComponentLink1Description: Manufacturer URL; ComponentLink1URL: http://www.onsemi.com/; ComponentLink2Description: Datasheet; ComponentLink2URL: http://www.onsemi.cn/pub_link/Collateral/TCA0372-D.PDF; ComponentLink3Description: Package Specification; ComponentLink3URL: http://www.onsemi.com/pub_link/Collateral/LM211-D.PDF
footprint ONSC-PDIP-8-626-05_M (DIP, 8-Leads, Body 10x7.1mm, Pitch 2.54mm)
pins on every part: 2 VCC (power), 4 VEE/GND (power)
part A pins: 1 OUTA (out), 7 INA+ (in), 8 INA- (in)
part B pins: 3 OUTB (out), 5 INB- (in), 6 INB+ (in)

## TCA0372BDP1G
designator U?
1.0 A Output Current, Dual Power Operational Amplifier, -40 to 125 degC, 8-Pin PDIP, Pb-Free, Tube; Manufacturer: On Semiconductor; PartNumber: TCA0372BDP1G; GBW Typ (MHz): 1.4; DatasheetVersion: Rev. 11; PackageVersion: Rev. M, 04/2010; PackageReference: PDIP-8-626-05; PackageDescription: 8-Pin Plastic Dual-In Line Package, Body 9.52 x 6.605 mm, Pitch 2.54 mm; Supplier 1: Digi-Key; Supplier Part Number 1: TCA0372BDP1GOS-ND; Supplier 2: Newark; Supplier Part Number 2: 42K2654; Supplier 3: Mouser; Supplier Part Number 3: 863-TCA0372BDP1G; Packing: Tube; RoHS: TRUE; SR Typ (V/uS): 1.4; Mounting Technology: Through Hole; ComponentLink1Description: Manufacturer URL; ComponentLink1URL: http://www.onsemi.com/; ComponentLink2Description: Datasheet; ComponentLink2URL: http://www.onsemi.cn/pub_link/Collateral/TCA0372-D.PDF; ComponentLink3Description: Package Specification; ComponentLink3URL: http://www.onsemi.com/pub_link/Collateral/LM211-D.PDF
footprint ONSC-PDIP-8-626-05_M (DIP, 8-Leads, Body 10x7.1mm, Pitch 2.54mm)
pins on every part: 2 VCC (power), 4 VEE/GND (power)
part A pins: 1 OUTA (out), 7 INA+ (in), 8 INA- (in)
part B pins: 3 OUTB (out), 5 INB- (in), 6 INB+ (in)

## TCA0372BDWR2
designator U?
1.0 A Output Current, Dual Power Operational Amplifier, -40 to 125 degC, 16-Pin SOIC, Tape and Reel; Manufacturer: On Semiconductor; PartNumber: TCA0372BDWR2; GBW Typ (MHz): 1.4; DatasheetVersion: Rev. 11; PackageVersion: Rev. D, 02/2013; PackageReference: SOIC-16-751G-03; PackageDescription: 16-Pin Small Outline Integrated Circuit, Body 10.3 x 7.5 mm, Pitch 1.27 mm; Supplier 1: Digi-Key; Supplier Part Number 1: TCA0372BDWR2OS-ND; Supplier 2: Mouser; Supplier Part Number 2: 863-TCA0372BDWR2; Packing: Tape and Reel; RoHS: FALSE; SR Typ (V/uS): 1.4; Mounting Technology: Surface Mount; ComponentLink1Description: Manufacturer URL; ComponentLink1URL: http://www.onsemi.com/; ComponentLink2Description: Datasheet; ComponentLink2URL: http://www.onsemi.cn/pub_link/Collateral/TCA0372-D.PDF; ComponentLink3Description: Package Specification; ComponentLink3URL: http://www.onsemi.com/pub_link/Collateral/751G-03.PDF
footprint ONSC-SOIC-16-751G-03_V (SOIC, 16-Leads, Body 10.45x7.6mm, Pitch 1.27mm)
part A pins: 9 INA+ (in), 10 INA- (in), 16 OUTA (out)
part B pins: 2 OUTB (out), 7 INB- (in), 8 INB+ (in)
part C pins: 1 VCC (power), 3 NC, 4 VEE/GND (power), 5 VEE/GND (power), 6 NC, 11 NC, 12 VEE/GND (power), 13 VEE/GND (power), 14 NC, 15 NC

## TCA0372BDWR2G
designator U?
1.0 A Output Current, Dual Power Operational Amplifier, -40 to 125 degC, 16-Pin SOIC, Pb-Free, Tape and Reel; Manufacturer: On Semiconductor; PartNumber: TCA0372BDWR2G; GBW Typ (MHz): 1.4; DatasheetVersion: Rev. 11; PackageVersion: Rev. D, 02/2013; PackageReference: SOIC-16-751G-03; PackageDescription: 16-Pin Small Outline Integrated Circuit, Body 10.3 x 7.5 mm, Pitch 1.27 mm; Supplier 1: Digi-Key; Supplier Part Number 1: TCA0372BDWR2GOSTR-ND; Supplier 2: Digi-Key; Supplier Part Number 2: TCA0372BDWR2GOSCT-ND; Supplier 3: Digi-Key; Supplier Part Number 3: TCA0372BDWR2GOSDKR-ND; Supplier 4: Newark; Supplier Part Number 4: 26K5196; Supplier 5: Mouser; Supplier Part Number 5: 863-TCA0372BDWR2G; Packing: Tape and Reel; RoHS: TRUE; SR Typ (V/uS): 1.4; Mounting Technology: Surface Mount; ComponentLink1Description: Manufacturer URL; ComponentLink1URL: http://www.onsemi.com/; ComponentLink2Description: Datasheet; ComponentLink2URL: http://www.onsemi.cn/pub_link/Collateral/TCA0372-D.PDF; ComponentLink3Description: Package Specification; ComponentLink3URL: http://www.onsemi.com/pub_link/Collateral/751G-03.PDF
footprint ONSC-SOIC-16-751G-03_V (SOIC, 16-Leads, Body 10.45x7.6mm, Pitch 1.27mm)
part A pins: 9 INA+ (in), 10 INA- (in), 16 OUTA (out)
part B pins: 2 OUTB (out), 7 INB- (in), 8 INB+ (in)
part C pins: 1 VCC (power), 3 NC, 4 VEE/GND (power), 5 VEE/GND (power), 6 NC, 11 NC, 12 VEE/GND (power), 13 VEE/GND (power), 14 NC, 15 NC

## TCA0372DM2EL
designator U?
1.0 A Output Current, Dual Power Operational Amplifier, -40 to 125 degC, 16-Pin SOEIAJ, Tape and Reel; Manufacturer: On Semiconductor; PartNumber: TCA0372DM2EL; GBW Typ (MHz): 1.4; DatasheetVersion: Rev. 11; PackageVersion: Rev. A, 10/2005; PackageReference: SOEIAJ-16-966-01; PackageDescription: 16-Pin Small Outline Integrated Circuit, Body 10.2 x 5.275 mm, Pitch 1.27 mm; Supplier 1: Digi-Key; Supplier Part Number 1: TCA0372DM2ELOS-ND; Supplier 2: Mouser; Supplier Part Number 2: 863-TCA0372DM2EL; Packing: Tape and Reel; RoHS: FALSE; SR Typ (V/uS): 1.4; Mounting Technology: Surface Mount; ComponentLink1Description: Manufacturer URL; ComponentLink1URL: http://www.onsemi.com/; ComponentLink2Description: Datasheet; ComponentLink2URL: http://www.onsemi.cn/pub_link/Collateral/TCA0372-D.PDF; ComponentLink3Description: Package Specification; ComponentLink3URL: http://www.onsemi.cn/pub_link/Collateral/966-01.PDF
footprint ONSC-SOEIAJ-16-966-01_N (SOIC, 16-Leads, Body 10.5x5.45mm, Pitch 1.27mm, IPC Medium Density)
footprint ONSC-SOEIAJ-16-966-01_L (SOIC, 16-Leads, Body 10.5x5.45mm, Pitch 1.27mm, IPC High Density)
footprint ONSC-SOEIAJ-16-966-01_M (SOIC, 16-Leads, Body 10.5x5.45mm, Pitch 1.27mm, IPC Low Density)
part A pins: 3 OUTA (out), 13 INA+ (in), 14 INA- (in)
part B pins: 5 OUTB (out), 11 INB- (in), 12 INB+ (in)
part C pins: 1 VEE/GND (power), 2 NC, 4 VCC (power), 6 NC, 7 NC, 8 VEE/GND (power), 9 VEE/GND (power), 10 NC, 15 NC, 16 VEE/GND (power)

## TCA0372DM2ELG
designator U?
1.0 A Output Current, Dual Power Operational Amplifier, -40 to 125 degC, 16-Pin SOEIAJ, Pb-Free, Tape and Reel; Manufacturer: On Semiconductor; PartNumber: TCA0372DM2ELG; GBW Typ (MHz): 1.4; DatasheetVersion: Rev. 11; PackageVersion: Rev. A, 10/2005; PackageReference: SOEIAJ-16-966-01; PackageDescription: 16-Pin Small Outline Integrated Circuit, Body 10.2 x 5.275 mm, Pitch 1.27 mm; Supplier 1: Digi-Key; Supplier Part Number 1: TCA0372DM2ELGOSTR-ND; Supplier 2: Digi-Key; Supplier Part Number 2: TCA0372DM2ELGOSCT-ND; Supplier 3: Newark; Supplier Part Number 3: 26K5197; Supplier 4: Mouser; Supplier Part Number 4: 863-TCA0372DM2ELG; Packing: Tape and Reel; RoHS: TRUE; SR Typ (V/uS): 1.4; Mounting Technology: Surface Mount; ComponentLink1Description: Manufacturer URL; ComponentLink1URL: http://www.onsemi.com/; ComponentLink2Description: Datasheet; ComponentLink2URL: http://www.onsemi.cn/pub_link/Collateral/TCA0372-D.PDF; ComponentLink3Description: Package Specification; ComponentLink3URL: http://www.onsemi.cn/pub_link/Collateral/966-01.PDF
footprint ONSC-SOEIAJ-16-966-01_N (SOIC, 16-Leads, Body 10.5x5.45mm, Pitch 1.27mm, IPC Medium Density)
footprint ONSC-SOEIAJ-16-966-01_L (SOIC, 16-Leads, Body 10.5x5.45mm, Pitch 1.27mm, IPC High Density)
footprint ONSC-SOEIAJ-16-966-01_M (SOIC, 16-Leads, Body 10.5x5.45mm, Pitch 1.27mm, IPC Low Density)
part A pins: 3 OUTA (out), 13 INA+ (in), 14 INA- (in)
part B pins: 5 OUTB (out), 11 INB- (in), 12 INB+ (in)
part C pins: 1 VEE/GND (power), 2 NC, 4 VCC (power), 6 NC, 7 NC, 8 VEE/GND (power), 9 VEE/GND (power), 10 NC, 15 NC, 16 VEE/GND (power)

## TCA0372DP1
designator U?
1.0 A Output Current, Dual Power Operational Amplifier, -40 to 125 degC, 8-Pin PDIP, Tube; Manufacturer: On Semiconductor; PartNumber: TCA0372DP1; GBW Typ (MHz): 1.4; DatasheetVersion: Rev. 11; PackageVersion: Rev. M, 04/2010; PackageReference: PDIP-8-626-05; PackageDescription: 8-Pin Plastic Dual-In Line Package, Body 9.52 x 6.605 mm, Pitch 2.54 mm; Supplier 1: Digi-Key; Supplier Part Number 1: TCA0372DP1OS-ND; Packing: Tube; RoHS: FALSE; SR Typ (V/uS): 1.4; Mounting Technology: Through Hole; ComponentLink1Description: Manufacturer URL; ComponentLink1URL: http://www.onsemi.com/; ComponentLink2Description: Datasheet; ComponentLink2URL: http://www.onsemi.cn/pub_link/Collateral/TCA0372-D.PDF; ComponentLink3Description: Package Specification; ComponentLink3URL: http://www.onsemi.com/pub_link/Collateral/LM211-D.PDF
footprint ONSC-PDIP-8-626-05_M (DIP, 8-Leads, Body 10x7.1mm, Pitch 2.54mm)
pins on every part: 2 VCC (power), 4 VEE/GND (power)
part A pins: 1 OUTA (out), 7 INA+ (in), 8 INA- (in)
part B pins: 3 OUTB (out), 5 INB- (in), 6 INB+ (in)

## TCA0372DP1G
designator U?
1.0 A Output Current, Dual Power Operational Amplifier, -40 to 125 degC, 8-Pin PDIP, Pb-Free, Tube; Manufacturer: On Semiconductor; PartNumber: TCA0372DP1G; GBW Typ (MHz): 1.4; DatasheetVersion: Rev. 11; PackageVersion: Rev. M, 04/2010; PackageReference: PDIP-8-626-05; PackageDescription: 8-Pin Plastic Dual-In Line Package, Body 9.52 x 6.605 mm, Pitch 2.54 mm; Supplier 1: Digi-Key; Supplier Part Number 1: TCA0372DP1GOS-ND; Supplier 2: Farnell; Supplier Part Number 2: 1651877; Supplier 3: Newark; Supplier Part Number 3: 88H5148; Supplier 4: Mouser; Supplier Part Number 4: 863-TCA0372DP1G; Packing: Tube; RoHS: TRUE; SR Typ (V/uS): 1.4; Mounting Technology: Through Hole; ComponentLink1Description: Manufacturer URL; ComponentLink1URL: http://www.onsemi.com/; ComponentLink2Description: Datasheet; ComponentLink2URL: http://www.onsemi.cn/pub_link/Collateral/TCA0372-D.PDF; ComponentLink3Description: Package Specification; ComponentLink3URL: http://www.onsemi.com/pub_link/Collateral/LM211-D.PDF
footprint ONSC-PDIP-8-626-05_M (DIP, 8-Leads, Body 10x7.1mm, Pitch 2.54mm)
pins on every part: 2 VCC (power), 4 VEE/GND (power)
part A pins: 1 OUTA (out), 7 INA+ (in), 8 INA- (in)
part B pins: 3 OUTB (out), 5 INB- (in), 6 INB+ (in)

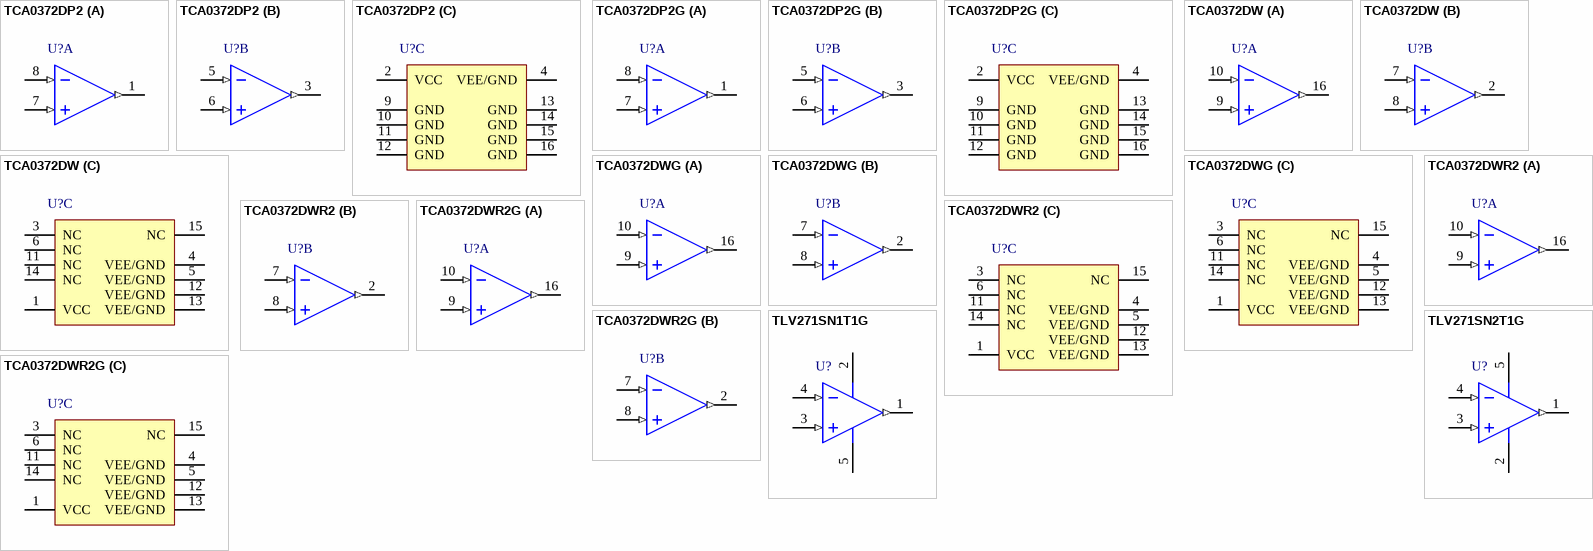
[diagram p25: symbols TCA0372DP2 to TLV271SN2T1G]

## TCA0372DP2
designator U?
1.0 A Output Current, Dual Power Operational Amplifier, -40 to 125 degC, 16-Pin PDIP, Tube; Manufacturer: On Semiconductor; PartNumber: TCA0372DP2; GBW Typ (MHz): 1.4; DatasheetVersion: Rev. 11; PackageVersion: Rev. T, 05/2004; PackageReference: PDIP-16-648-08_T; PackageDescription: 16-Pin Plastic Dual-In Line Package, Body 19.175 x 6.6 mm, Pitch 2.54 mm; Supplier 1: Digi-Key; Supplier Part Number 1: TCA0372DP2OS-ND; Supplier 2: Mouser; Supplier Part Number 2: 863-TCA0372DP2; Packing: Tube; RoHS: FALSE; SR Typ (V/uS): 1.4; Mounting Technology: Through Hole; ComponentLink1Description: Manufacturer URL; ComponentLink1URL: http://www.onsemi.com/; ComponentLink2Description: Datasheet; ComponentLink2URL: http://www.onsemi.cn/pub_link/Collateral/TCA0372-D.PDF; ComponentLink3Description: Package Specification; ComponentLink3URL: http://www.onsemi.com/pub_link/Collateral/MC14028B-D.PDF
footprint ONSC-PDIP-16-648-08_T (DIP, 16-Leads, Body 19.55x6.85mm, Pitch 2.54mm)
part A pins: 1 OUTA (out), 7 INA+ (in), 8 INA- (in)
part B pins: 3 OUTB (out), 5 INB- (in), 6 INB+ (in)
part C pins: 2 VCC (power), 4 VEE/GND (power), 9 GND (power), 10 GND (power), 11 GND (power), 12 GND (power), 13 GND (power), 14 GND (power), 15 GND (power), 16 GND (power)

## TCA0372DP2G
designator U?
1.0 A Output Current, Dual Power Operational Amplifier, -40 to 125 degC, 16-Pin PDIP, Pb-Free, Tube; Manufacturer: On Semiconductor; PartNumber: TCA0372DP2G; GBW Typ (MHz): 1.4; DatasheetVersion: Rev. 11; PackageVersion: Rev. T, 05/2004; PackageReference: PDIP-16-648-08_T; PackageDescription: 16-Pin Plastic Dual-In Line Package, Body 19.175 x 6.6 mm, Pitch 2.54 mm; Supplier 1: Digi-Key; Supplier Part Number 1: TCA0372DP2GOS-ND; Supplier 2: Farnell; Supplier Part Number 2: 1468782; Supplier 3: Newark; Supplier Part Number 3: 98H0977; Supplier 4: Mouser; Supplier Part Number 4: 863-TCA0372DP2G; Packing: Tube; RoHS: TRUE; SR Typ (V/uS): 1.4; Mounting Technology: Through Hole; ComponentLink1Description: Manufacturer URL; ComponentLink1URL: http://www.onsemi.com/; ComponentLink2Description: Datasheet; ComponentLink2URL: http://www.onsemi.cn/pub_link/Collateral/TCA0372-D.PDF; ComponentLink3Description: Package Specification; ComponentLink3URL: http://www.onsemi.com/pub_link/Collateral/MC14028B-D.PDF
footprint ONSC-PDIP-16-648-08_T (DIP, 16-Leads, Body 19.55x6.85mm, Pitch 2.54mm)
part A pins: 1 OUTA (out), 7 INA+ (in), 8 INA- (in)
part B pins: 3 OUTB (out), 5 INB- (in), 6 INB+ (in)
part C pins: 2 VCC (power), 4 VEE/GND (power), 9 GND (power), 10 GND (power), 11 GND (power), 12 GND (power), 13 GND (power), 14 GND (power), 15 GND (power), 16 GND (power)

## TCA0372DW
designator U?
1.0 A Output Current, Dual Power Operational Amplifier, -40 to 125 degC, 16-Pin SOIC, Tube; Manufacturer: On Semiconductor; PartNumber: TCA0372DW; GBW Typ (MHz): 1.4; DatasheetVersion: Rev. 11; PackageVersion: Rev. D, 02/2013; PackageReference: SOIC-16-751G-03; PackageDescription: 16-Pin Small Outline Integrated Circuit, Body 10.3 x 7.5 mm, Pitch 1.27 mm; Supplier 1: Digi-Key; Supplier Part Number 1: TCA0372DWOS-ND; Packing: Tube; RoHS: FALSE; SR Typ (V/uS): 1.4; Mounting Technology: Surface Mount; ComponentLink1Description: Manufacturer URL; ComponentLink1URL: http://www.onsemi.com/; ComponentLink2Description: Datasheet; ComponentLink2URL: http://www.onsemi.cn/pub_link/Collateral/TCA0372-D.PDF; ComponentLink3Description: Package Specification; ComponentLink3URL: http://www.onsemi.com/pub_link/Collateral/751G-03.PDF
footprint ONSC-SOIC-16-751G-03_V (SOIC, 16-Leads, Body 10.45x7.6mm, Pitch 1.27mm)
part A pins: 9 INA+ (in), 10 INA- (in), 16 OUTA (out)
part B pins: 2 OUTB (out), 7 INB- (in), 8 INB+ (in)
part C pins: 1 VCC (power), 3 NC, 4 VEE/GND (power), 5 VEE/GND (power), 6 NC, 11 NC, 12 VEE/GND (power), 13 VEE/GND (power), 14 NC, 15 NC

## TCA0372DWG
designator U?
1.0 A Output Current, Dual Power Operational Amplifier, -40 to 125 degC, 16-Pin SOIC, Pb-Free, Tube; Manufacturer: On Semiconductor; PartNumber: TCA0372DWG; GBW Typ (MHz): 1.4; DatasheetVersion: Rev. 11; PackageVersion: Rev. D, 02/2013; PackageReference: SOIC-16-751G-03; PackageDescription: 16-Pin Small Outline Integrated Circuit, Body 10.3 x 7.5 mm, Pitch 1.27 mm; Supplier 1: Digi-Key; Supplier Part Number 1: TCA0372DWGOS-ND; Supplier 2: Farnell; Supplier Part Number 2: 1468783; Supplier 3: Newark; Supplier Part Number 3: 26K5198; Supplier 4: Mouser; Supplier Part Number 4: 863-TCA0372DWG; Packing: Tube; RoHS: TRUE; SR Typ (V/uS): 1.4; Mounting Technology: Surface Mount; ComponentLink1Description: Manufacturer URL; ComponentLink1URL: http://www.onsemi.com/; ComponentLink2Description: Datasheet; ComponentLink2URL: http://www.onsemi.cn/pub_link/Collateral/TCA0372-D.PDF; ComponentLink3Description: Package Specification; ComponentLink3URL: http://www.onsemi.com/pub_link/Collateral/751G-03.PDF
footprint ONSC-SOIC-16-751G-03_V (SOIC, 16-Leads, Body 10.45x7.6mm, Pitch 1.27mm)
part A pins: 9 INA+ (in), 10 INA- (in), 16 OUTA (out)
part B pins: 2 OUTB (out), 7 INB- (in), 8 INB+ (in)
part C pins: 1 VCC (power), 3 NC, 4 VEE/GND (power), 5 VEE/GND (power), 6 NC, 11 NC, 12 VEE/GND (power), 13 VEE/GND (power), 14 NC, 15 NC

## TCA0372DWR2
designator U?
1.0 A Output Current, Dual Power Operational Amplifier, -40 to 125 degC, 16-Pin SOIC, Tape and Reel; Manufacturer: On Semiconductor; PartNumber: TCA0372DWR2; GBW Typ (MHz): 1.4; DatasheetVersion: Rev. 11; PackageVersion: Rev. D, 02/2013; PackageReference: SOIC-16-751G-03; PackageDescription: 16-Pin Small Outline Integrated Circuit, Body 10.3 x 7.5 mm, Pitch 1.27 mm; Supplier 1: Digi-Key; Supplier Part Number 1: TCA0372DWR2OSTR-ND; Supplier 2: Digi-Key; Supplier Part Number 2: TCA0372DWR2OSCT-ND; Supplier 3: Digi-Key; Supplier Part Number 3: TCA0372DWR2OSDKR-ND; Packing: Tape and Reel; RoHS: FALSE; SR Typ (V/uS): 1.4; Mounting Technology: Surface Mount; ComponentLink1Description: Manufacturer URL; ComponentLink1URL: http://www.onsemi.com/; ComponentLink2Description: Datasheet; ComponentLink2URL: http://www.onsemi.cn/pub_link/Collateral/TCA0372-D.PDF; ComponentLink3Description: Package Specification; ComponentLink3URL: http://www.onsemi.com/pub_link/Collateral/751G-03.PDF
footprint ONSC-SOIC-16-751G-03_V (SOIC, 16-Leads, Body 10.45x7.6mm, Pitch 1.27mm)
part A pins: 9 INA+ (in), 10 INA- (in), 16 OUTA (out)
part B pins: 2 OUTB (out), 7 INB- (in), 8 INB+ (in)
part C pins: 1 VCC (power), 3 NC, 4 VEE/GND (power), 5 VEE/GND (power), 6 NC, 11 NC, 12 VEE/GND (power), 13 VEE/GND (power), 14 NC, 15 NC